# EAGLE library part SN74LS112AN (library purdue_cs250)
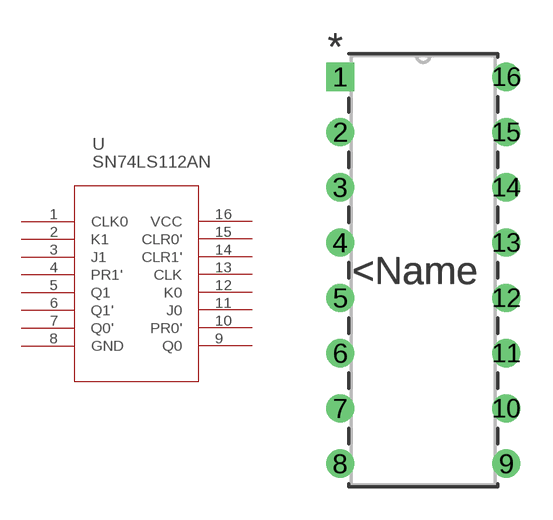
[diagram p3: symbol with the pads of N16; footprint N16]

Designator prefix U

## SN74LS112AN (MANUFACTURER_PART_NUMBER: SN74LS112AN; VENDOR: Texas Instruments)  [N16]
1  CLK0  in
2  K1  in
3  J1  in
4  PR1'  in
5  Q1  out
6  Q1'  out
7  Q0'  out
8  GND  pwr
9  Q0  out
10  PR0'  in
11  J0  in
12  K0  in
13  CLK  in
14  CLR1'  in
15  CLR0'  in
16  VCC  pwr

## Footprint N16 (pad centres in mm)
drill 0.787 pad 1.295 square: 1 -7.62,17.78
drill 0.787 pad 1.295: 2 -7.62,15.24; 3 -7.62,12.7; 4 -7.62,10.16; 5 -7.62,7.62; 6 -7.62,5.08; 7 -7.62,2.54; 8 -7.62,0; 9 0,0; 10 0,2.54; 11 0,5.08; 12 0,7.62; 13 0,10.16; 14 0,12.7; 15 0,15.24; 16 0,17.78